# EAGLE library part TPS5450 (library JH)
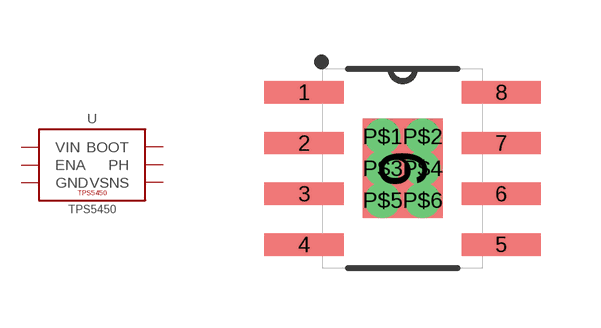
[diagram p5: symbol with the pads of POWERPAD-SOIC-8; footprint POWERPAD-SOIC-8]

Designator prefix -

## TPS5450  [POWERPAD-SOIC-8]
1  BOOT
2  NC  nc
3  NC  nc
4  VSNS  in
5  ENA  in
6  GND  pwr
7  VIN  pwr
8  PH
9  GND  pwr
P$1  GND  pwr
P$2  GND  pwr
P$3  GND  pwr
P$4  GND  pwr
P$5  GND  pwr
P$6  GND  pwr

## Footprint POWERPAD-SOIC-8 (pad centres in mm)
smd 1.981 x 0.559: 1 -2.464,1.905; 2 -2.464,0.635; 3 -2.464,-0.635; 4 -2.464,-1.905; 5 2.464,-1.905; 6 2.464,-0.635; 7 2.464,0.635; 8 2.464,1.905
smd 2.007 x 2.489: 9 0,0
drill 0.381: P$1 -0.5,0.8; P$2 0.5,0.8; P$3 -0.5,0; P$4 0.5,0; P$5 -0.5,-0.8; P$6 0.5,-0.8